# Altium footprint library DDS_PCB.PcbLib: 34 footprints (part 3 of 3)
Each footprint in its own frame and in the unit in brackets; x right, y up, seen from the top. Pads: shape width x height; smd on the part's side, far side on the other; paste and mask are expansions set on the pad; w line width, h text height; cw(c..) or ccw(c..) is an arc to the next point about the centre after c.
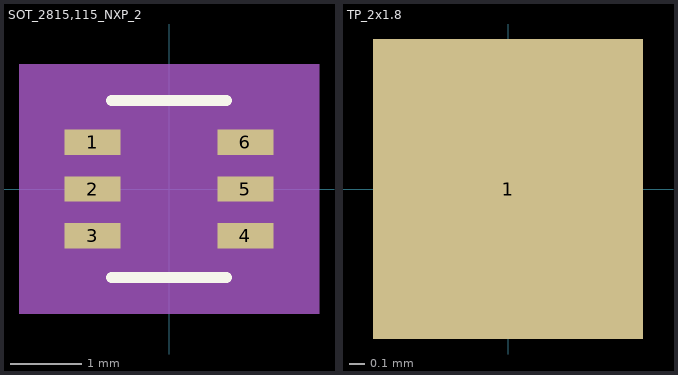
[diagram p2: the footprints below, top view; thin cyan lines are the x and y axes]

## SOT_2815,115_NXP_2 [mm]
pads (6):
  rect 0.782x0.355 smd paste+0 mask+0: 1(-1.064,0.65) 2(-1.064,0) 3(-1.064,-0.65) 4(1.064,-0.65) 5(1.064,0) 6(1.064,0.65)
Top Overlay:
  lines w0.152: -0.8,-1.232 0.8,-1.232 ; -0.8,1.232 0.8,1.232
  text "." at -1.524,1.016 h1.27
Mechanical 5:
  region: 2.09,-1.74 -2.09,-1.74 -2.09,1.74 2.09,1.74
Mechanical 13:
  lines w0: -0.305,1.105 ccw(c0,1.105) 0.305,1.105
  lines w0.025: -1.105,-0.802 -1.105,-0.498 -0.673,-0.498 -0.673,-0.802 -1.105,-0.802 ; -1.105,-0.152 -1.105,0.152 -0.673,0.152 -0.673,-0.152 -1.105,-0.152 ; -1.105,0.498 -1.105,0.802 -0.673,0.802 -0.673,0.498 -1.105,0.498 ; -0.673,-1.105 0.673,-1.105 0.673,1.105 -0.673,1.105 -0.673,-1.105 ; 0.673,-0.802 0.673,-0.498 1.105,-0.498 1.105,-0.802 0.673,-0.802 ; 0.673,-0.152 0.673,0.152 1.105,0.152 1.105,-0.152 0.673,-0.152 ; 0.673,0.498 0.673,0.802 1.105,0.802 1.105,0.498 0.673,0.498
  text "*" at -0.61,-0.241 h1.27
Mechanical 15:
  region: -0.927,-1.081 -1.709,-1.081 -1.709,1.081 -0.927,1.081 -0.927,1.359 0.927,1.359 0.927,1.081 1.709,1.081 1.709,-1.081 0.927,-1.081 0.927,-1.359 -0.927,-1.359
  lines w0.152: -1.709,-1.081 -1.709,1.081 -0.927,1.081 -0.927,1.359 0.927,1.359 0.927,1.081 1.709,1.081 1.709,-1.081 0.927,-1.081 0.927,-1.359 -0.927,-1.359 -0.927,-1.081 -1.709,-1.081
3D body: height 0.25, standoff 0, extent 0,0 0.254,0.254
3D body "SOT_2815115_NXP.step": height 1.09, standoff 0, extent -1.105,-1.105 1.105,1.105

## TP_2x1.8 [mm]
pads (1):
  rect 1.8x2 smd mask+0.05: 1(0,0)
3D body: height 1, standoff 0, extent -0.864,-0.762 0.889,0.787